# Altium integrated library Altium_SMD_Resister.IntLib: 493 symbols (part 3 of 8)
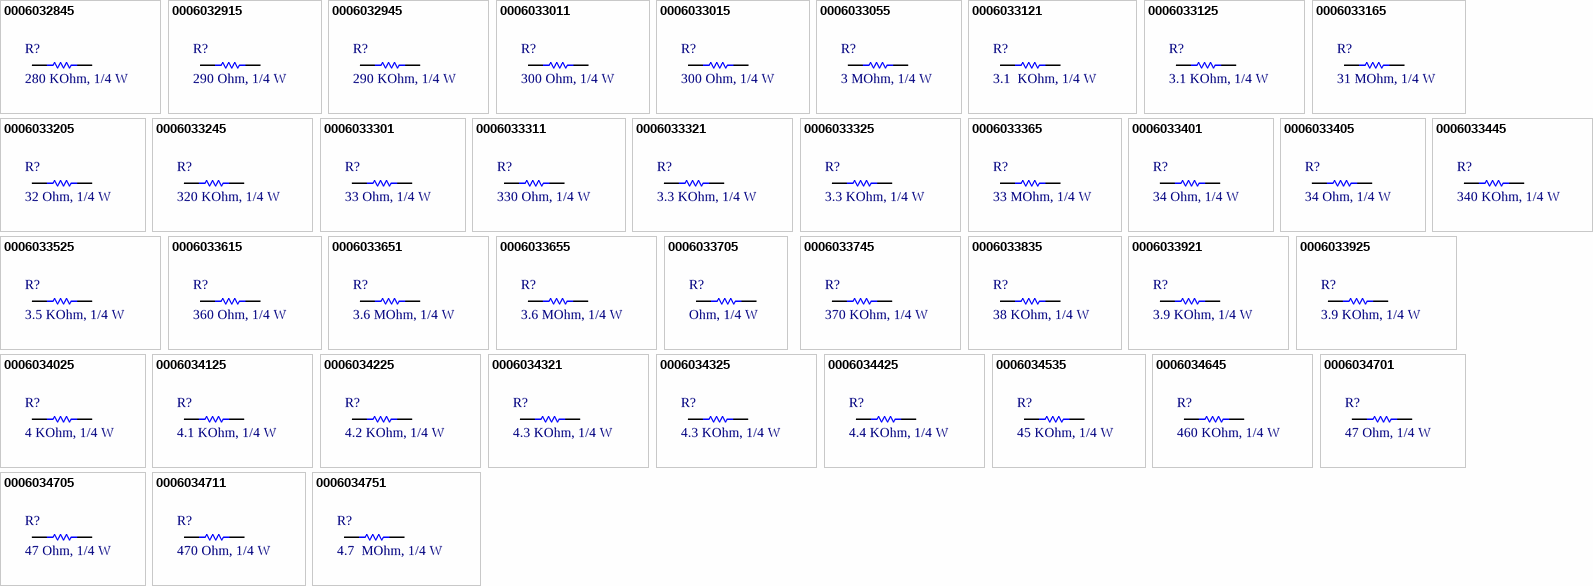
[diagram p14: symbols 0006032845 to 0006034751]

## 0006033205
designator R?, comment 32 Ohm, 1/4 W
RES, size 0805, 32 Ohm, 1/4 W; Manufacture  Name: OEM; Rated Power: 1/4 W; Resistance: 32 Ohm; Resistance Tolerant: +/-5%; Size: 0603; Mounting Technology: SMT; Datasheet: N/A; Supplier 1 Name: Mouser; Supplier 1 SN: N/A; Supplier 1 URL: N/A; Supplier 2 Name: Digi-Key; Supplier 2 SN: N/A; Supply 2 URL: N/A; Supplier 3 Name: Thegioiic; Supplier 3 SN: N/A; Supplier 3 URL: N/A; Manufacture  SN: OEM; Value: 32 Ohm, 1/4 W
footprint resistor_0603
pins: 1, 2

## 0006033245
designator R?, comment 320 KOhm, 1/4 W
RES, size 0805, 320 KOhm, 1/4 W; Manufacture  Name: OEM; Rated Power: 1/4 W; Resistance Tolerant: +/-5%; Size: 0603; Mounting Technology: SMT; Datasheet: N/A; Resistance: 320 KOhm; Supplier 1 Name: Mouser; Supplier 1 SN: N/A; Supplier 1 URL: N/A; Supplier 2 Name: Digi-Key; Supplier 2 SN: N/A; Supply 2 URL: N/A; Supplier 3 Name: Thegioiic; Supplier 3 SN: N/A; Supplier 3 URL: N/A; Manufacture  SN: OEM; Value: 320 KOhm, 1/4 W
footprint resistor_0603
pins: 1, 2

## 0006033301
designator R?, comment 33 Ohm, 1/4 W
RES, size 0805, 33 Ohm, 1/4 W; Manufacture  Name: OEM; Resistance: 33 Ohm; Resistance Tolerant: +/-1%; Rated Power: 1/4 W; Size: 0603; Mounting Technology: SMT; Supplier 1 Name: Mouser; Supplier 1 SN: 667-ERJ-UP3F33R0V; Supplier 2 Name: Digi-Key; Supplier 2 SN: 10-ERJ-UP3F33R0VTR-ND 10-ERJ-UP3F33R0VCT-ND 10-ERJ-UP3F33R0VDKR-ND; Supplier 1 URL: https://www.mouser.vn/ProductDetail/Panasonic/ERJ-UP3F33R0V?qs=sGAEpiMZZMvdGkrng054twq3eZrCFN89SIaxCOiI%2FLhwYCTxSQzpaA%3D%3D; Supply 2 URL: https://www.digikey.com/en/products/detail/panasonic-electronic-components/ERJ-UP3F33R0V/12092441; Supplier 3 Name: Thegioiic; Supplier 3 SN: N/A; Supplier 3 URL: N/A; Datasheet: https://api.pim.na.industrial.panasonic.com/file_stream/main/fileversion/4484; Manufacture  SN: OEM; Value: 33 Ohm, 1/4 W
footprint resistor_0603
pins: 1, 2

## 0006033311
designator R?, comment 330 Ohm, 1/4 W
RES, size 0805, 330 Ohm, 1/4 W; Manufacture  Name: OEM; Resistance: 330 Ohm; Resistance Tolerant: +/-1%; Rated Power: 1/4 W; Size: 0603; Mounting Technology: SMT; Supplier 1 Name: Mouser; Supplier 1 SN: 667-ERJ-UP3F3300V; Supplier 2 Name: Digi-Key; Supplier 2 SN: 10-ERJ-UP3F3300VTR-ND 10-ERJ-UP3F3300VCT-ND 10-ERJ-UP3F3300VDKR-ND; Supplier 1 URL: https://www.mouser.vn/ProductDetail/Panasonic/ERJ-UP3F3300V?qs=sGAEpiMZZMvdGkrng054twq3eZrCFN89MDZusw5Tf7mZnfRSpxxqIA%3D%3D; Supply 2 URL: https://www.digikey.com/en/products/detail/panasonic-electronic-components/ERJ-UP3F3300V/12093106; Supplier 3 Name: Thegioiic; Supplier 3 SN: N/A; Supplier 3 URL: N/A; Datasheet: https://api.pim.na.industrial.panasonic.com/file_stream/main/fileversion/4484; Manufacture  SN: OEM; Value: 330 Ohm, 1/4 W
footprint resistor_0603
pins: 1, 2

## 0006033321
designator R?, comment 3.3 KOhm, 1/4 W
RES, size 0805, 3.3 KOhm, 1/4 W; Manufacture  Name: OEM; Resistance Tolerant: +/-1%; Rated Power: 1/4 W; Resistance: 3.3 KOhm; Size: 0603; Mounting Technology: SMT; Supplier 1 Name: Mouser; Supplier 1 SN: 667-ERJ-PA3F3301V; Supplier 2 Name: Digi-Key; Supplier 2 SN: 10-ERJ-UP3F3301VTR-ND 10-ERJ-UP3F3301VCT-ND 10-ERJ-UP3F3301VDKR-ND; Supplier 1 URL: https://www.mouser.vn/ProductDetail/Panasonic/ERJ-PA3F3301V?qs=sGAEpiMZZMvdGkrng054t6%2FAfIpq60YDpB2wwO%252BBqIBQy72ynM%2FI9Q%3D%3D; Supply 2 URL: https://www.digikey.com/en/products/detail/panasonic-electronic-components/ERJ-UP3F3301V/12093093; Supplier 3 Name: Thegioiic; Supplier 3 SN: N/A; Supplier 3 URL: N/A; Datasheet: https://api.pim.na.industrial.panasonic.com/file_stream/main/fileversion/4484; Manufacture  SN: OEM; Value: 3.3 KOhm, 1/4 W
footprint resistor_0603
pins: 1, 2

## 0006033325
designator R?, comment 3.3 KOhm, 1/4 W
RES, size 0805, 3.3 KOhm, 1/4 W; Manufacture  Name: Panasonic; Manufacture  SN: ERJ-UP3J332V; Rated Power: 1/4 W; Resistance Tolerant: +/-5%; Size: 0603; Mounting Technology: SMT; Datasheet: https://www.mouser.vn/datasheet/2/315/Panasonic_Resistors_Thick_Film_Anti_Sulf_Anti_Surg-1825099.pdf; Resistance: 3.3 KOhm; Supplier 1 Name: Mouser; Supplier 1 SN: 667-ERJ-UP3J332V; Supplier 1 URL: https://www.mouser.vn/ProductDetail/Panasonic/ERJ-UP3J332V?qs=GedFDFLaBXFgKQrmrDNO%252Bg%3D%3D; Supplier 2 Name: Digi-Key; Supplier 2 SN: 10-ERJ-UP3J332VTR-ND - Tape & Reel (TR); Supply 2 URL: https://www.digikey.com/en/products/detail/panasonic-electronic-components/ERJ-UP3J332V/12092604?s=N4IgTCBcDaIGxwOwFoCiAlAUsgqgBQGZMCCwA1EAXQF8g; Supplier 3 Name: Thegioiic; Supplier 3 SN: N/A; Supplier 3 URL: N/A; Value: 3.3 KOhm, 1/4 W
footprint resistor_0603
pins: 1, 2

## 0006033365
designator R?, comment 33 MOhm, 1/4 W
RES, size 0805, 33 MOhm, 1/4 W; Manufacture  Name: OEM; Rated Power: 1/4 W; Resistance: 33 MOhm; Resistance Tolerant: +/-5%; Size: 0603; Mounting Technology: SMT; Datasheet: N/A; Supplier 1 Name: Mouser; Supplier 1 SN: N/A; Supplier 1 URL: N/A; Supplier 2 Name: Digi-Key; Supplier 2 SN: N/A; Supply 2 URL: N/A; Supplier 3 Name: Thegioiic; Supplier 3 SN: N/A; Supplier 3 URL: N/A; Manufacture  SN: OEM; Value: 33 MOhm, 1/4 W
footprint resistor_0603
pins: 1, 2

## 0006033401
designator R?, comment 34 Ohm, 1/4 W
RES, size 0805, 34 Ohm, 1/4 W; Manufacture  Name: OEM; Resistance: 34 Ohm; Resistance Tolerant: +/-1%; Rated Power: 1/4 W; Size: 0603; Mounting Technology: SMT; Supplier 1 Name: Mouser; Supplier 1 SN: 667-ERJ-PA3F34R0V; Supplier 2 Name: Digi-Key; Supplier 2 SN: 10-ERJ-UP3F34R0VTR-ND; Supplier 1 URL: https://www.mouser.vn/ProductDetail/Panasonic/ERJ-PA3F34R0V?qs=sGAEpiMZZMvdGkrng054t6%2FAfIpq60YDFpgNmxonQxDNwfArcaAbgA%3D%3D; Supply 2 URL: https://www.digikey.com/en/products/detail/panasonic-electronic-components/ERJ-UP3F34R0V/12092872; Supplier 3 Name: Thegioiic; Supplier 3 SN: N/A; Supplier 3 URL: N/A; Datasheet: https://api.pim.na.industrial.panasonic.com/file_stream/main/fileversion/4484; Manufacture  SN: OEM; Value: 34 Ohm, 1/4 W
footprint resistor_0603
pins: 1, 2

## 0006033405
designator R?, comment 34 Ohm, 1/4 W
RES, size 0805, 34 Ohm, 1/4 W; Manufacture  Name: OEM; Rated Power: 1/4 W; Resistance: 34 Ohm; Resistance Tolerant: +/-5%; Size: 0603; Mounting Technology: SMT; Datasheet: N/A; Supplier 1 Name: Mouser; Supplier 1 SN: N/A; Supplier 1 URL: N/A; Supplier 2 Name: Digi-Key; Supplier 2 SN: N/A; Supply 2 URL: N/A; Supplier 3 Name: Thegioiic; Supplier 3 SN: N/A; Supplier 3 URL: N/A; Manufacture  SN: OEM; Value: 34 Ohm, 1/4 W
footprint resistor_0603
pins: 1, 2

## 0006033445
designator R?, comment 340 KOhm, 1/4 W
RES, size 0805, 340 KOhm, 1/4 W; Manufacture  Name: OEM; Rated Power: 1/4 W; Resistance Tolerant: +/-5%; Size: 0603; Mounting Technology: SMT; Datasheet: N/A; Resistance: 340 KOhm; Supplier 1 Name: Mouser; Supplier 1 SN: N/A; Supplier 1 URL: N/A; Supplier 2 Name: Digi-Key; Supplier 2 SN: N/A; Supply 2 URL: N/A; Supplier 3 Name: Thegioiic; Supplier 3 SN: N/A; Supplier 3 URL: N/A; Manufacture  SN: OEM; Value: 340 KOhm, 1/4 W
footprint resistor_0603
pins: 1, 2

## 0006033525
designator R?, comment 3.5 KOhm, 1/4 W
RES, size 0805, 3.5 KOhm, 1/4 W; Manufacture  Name: OEM; Rated Power: 1/4 W; Resistance Tolerant: +/-5%; Size: 0603; Mounting Technology: SMT; Datasheet: N/A; Resistance: 3.5 KOhm; Supplier 1 Name: Mouser; Supplier 1 SN: N/A; Supplier 1 URL: N/A; Supplier 2 Name: Digi-Key; Supplier 2 SN: N/A; Supply 2 URL: N/A; Supplier 3 Name: Thegioiic; Supplier 3 SN: N/A; Supplier 3 URL: N/A; Manufacture  SN: OEM; Value: 3.5 KOhm, 1/4 W
footprint resistor_0603
pins: 1, 2

## 0006033615
designator R?, comment 360 Ohm, 1/4 W
RES, size 0805, 360 Ohm, 1/4 W; Manufacture  Name: Panasonic; Manufacture  SN: ERJ-PA3J361V; Rated Power: 1/4 W; Resistance: 360 Ohm; Resistance Tolerant: +/-5%; Size: 0603; Mounting Technology: SMT; Datasheet: https://www.mouser.vn/datasheet/2/315/AOA0000C331-1141874.pdf; Supplier 1 Name: Mouser; Supplier 1 SN: 667-ERJ-PA3J361V; Supplier 1 URL: https://www.mouser.vn/ProductDetail/Panasonic/ERJ-PA3J361V?qs=BzJM0faLVqUhDLV4JPGgSA%3D%3D; Supplier 2 Name: Digi-Key; Supplier 2 SN: P360BZTR-ND - Tape & Reel (TR); Supply 2 URL: https://www.digikey.com/en/products/detail/panasonic-electronic-components/ERJ-PA3J361V/5036046?s=N4IgTCBcDaIGxwOwFoCiAlAUsgCgQQGZMC4BGANRAF0BfIA; Supplier 3 Name: Thegioiic; Supplier 3 SN: N/A; Supplier 3 URL: N/A; Value: 360 Ohm, 1/4 W
footprint resistor_0603
pins: 1, 2

## 0006033651
designator R?, comment 3.6 MOhm, 1/4 W
RES, size 0805, 3.6 MOhm, 1/4 W; Manufacture  Name: OEM; Resistance Tolerant: +/-1%; Rated Power: 1/4 W; Resistance: 3.6 MOhm; Size: 0603; Mounting Technology: SMT; Supplier 1 Name: Mouser; Supplier 1 SN: 755-ESR03EZPF3604; Supplier 2 Name: Digi-Key; Supplier 2 SN: ESR03EZPF3604-ND; Supplier 1 URL: https://www.mouser.vn/ProductDetail/ROHM-Semiconductor/ESR03EZPF3604?qs=sGAEpiMZZMvdGkrng054tywGjayRHxH2%2FxsX8eATj0b%2F79MXXLOFlA%3D%3D; Supply 2 URL: https://www.digikey.com/en/products/detail/rohm-semiconductor/ESR03EZPF3604/4007226?s=N4IgjCBcoExaBjKAzAhgGwM4FMA0IB7KAbXADYBWAFgGYQBdfABwBcoQBlFgJwEsA7AOYgAvvjrQQSSGix5CJcGBoRGIVuy58ho-GBgBOCJOmyc%2BIpFI0DMKhQbM2kTjwHCxIGAAYAHA5MUDHMFKxAaADoyAAIAWQB5AAsAW0xHdWcQAFV%2BXhZ45FjsVEwAV25sUU84MIrMXkwWAm4GESA; Supplier 3 Name: Thegioiic; Supplier 3 SN: N/A; Supplier 3 URL: N/A; Datasheet: https://fscdn.rohm.com/en/products/databook/datasheet/passive/resistor/chip_resistor/esr-e.pdf; Manufacture  SN: OEM; Value: 3.6 MOhm, 1/4 W
footprint resistor_0603
pins: 1, 2

## 0006033655
designator R?, comment 3.6 MOhm, 1/4 W
RES, size 0805, 3.6 MOhm, 1/4 W; Manufacture  Name: Panasonic; Manufacture  SN: PS03W4J0365T5E; Rated Power: 1/4 W; Resistance Tolerant: +/-5%; Size: 0603; Mounting Technology: SMT; Datasheet: https://www.mouser.vn/datasheet/2/1365/HighPrecisionPS-2498060.pdf; Resistance: 3.6 MOhm; Supplier 1 Name: Mouser; Supplier 1 SN: 303-PS03W4J0365T5E; Supplier 1 URL: https://www.mouser.vn/ProductDetail/Royalohm/PS03W4J0365T5E?qs=e8oIoAS2J1Tdj3KjxH4iAA%3D%3D; Supplier 2 Name: Digi-Key; Supplier 2 SN: N/A; Supply 2 URL: N/A; Supplier 3 Name: Thegioiic; Supplier 3 SN: N/A; Supplier 3 URL: N/A; Value: 3.6 MOhm, 1/4 W
footprint resistor_0603
pins: 1, 2

## 0006033705
designator R?, comment Ohm, 1/4 W
RES, size 0805,  Ohm, 1/4 W; Manufacture  Name: OEM; Rated Power: 1/4 W; Resistance Tolerant: +/-5%; Size: 0603; Mounting Technology: SMT; Datasheet: N/A; Resistance: Ohm; Supplier 1 Name: Mouser; Supplier 1 SN: N/A; Supplier 1 URL: N/A; Supplier 2 Name: Digi-Key; Supplier 2 SN: N/A; Supply 2 URL: N/A; Supplier 3 Name: Thegioiic; Supplier 3 SN: N/A; Supplier 3 URL: N/A; Manufacture  SN: OEM; Value: Ohm, 1/4 W
footprint resistor_0603
pins: 1, 2

## 0006033745
designator R?, comment 370 KOhm, 1/4 W
RES, size 0805, 370 KOhm, 1/4 W; Manufacture  Name: OEM; Rated Power: 1/4 W; Resistance Tolerant: +/-5%; Size: 0603; Mounting Technology: SMT; Datasheet: N/A; Resistance: 370 KOhm; Supplier 1 Name: Mouser; Supplier 1 SN: N/A; Supplier 1 URL: N/A; Supplier 2 Name: Digi-Key; Supplier 2 SN: N/A; Supply 2 URL: N/A; Supplier 3 Name: Thegioiic; Supplier 3 SN: N/A; Supplier 3 URL: N/A; Manufacture  SN: OEM; Value: 370 KOhm, 1/4 W
footprint resistor_0603
pins: 1, 2

## 0006033835
designator R?, comment 38 KOhm, 1/4 W
RES, size 0805, 38 KOhm, 1/4 W; Manufacture  Name: OEM; Rated Power: 1/4 W; Resistance: 38 KOhm; Resistance Tolerant: +/-5%; Size: 0603; Mounting Technology: SMT; Datasheet: N/A; Supplier 1 Name: Mouser; Supplier 1 SN: N/A; Supplier 1 URL: N/A; Supplier 2 Name: Digi-Key; Supplier 2 SN: N/A; Supply 2 URL: N/A; Supplier 3 Name: Thegioiic; Supplier 3 SN: N/A; Supplier 3 URL: N/A; Manufacture  SN: OEM; Value: 38 KOhm, 1/4 W
footprint resistor_0603
pins: 1, 2

## 0006033921
designator R?, comment 3.9 KOhm, 1/4 W
RES, size 0805, 3.9 KOhm, 1/4 W; Manufacture  Name: OEM; Resistance Tolerant: +/-1%; Rated Power: 1/4 W; Resistance: 3.9 KOhm; Size: 0603; Mounting Technology: SMT; Supplier 1 Name: Mouser; Supplier 1 SN: 667-ERJ-UP3F3901V; Supplier 2 Name: Digi-Key; Supplier 2 SN: 10-ERJ-UP3F3901VTR-ND 10-ERJ-UP3F3901VCT-ND 10-ERJ-UP3F3901VDKR-ND; Supplier 1 URL: https://www.mouser.vn/ProductDetail/Panasonic/ERJ-UP3F3901V?qs=sGAEpiMZZMvdGkrng054twq3eZrCFN89v%252B1LrQ8PuG0U4NoLKvJXbQ%3D%3D; Supply 2 URL: https://www.digikey.com/en/products/detail/panasonic-electronic-components/ERJ-UP3F3901V/12092302; Supplier 3 Name: Thegioiic; Supplier 3 SN: N/A; Supplier 3 URL: N/A; Datasheet: https://api.pim.na.industrial.panasonic.com/file_stream/main/fileversion/4484; Manufacture  SN: OEM; Value: 3.9 KOhm, 1/4 W
footprint resistor_0603
pins: 1, 2

## 0006033925
designator R?, comment 3.9 KOhm, 1/4 W
RES, size 0805, 3.9 KOhm, 1/4 W; Manufacture  Name: Panasonic; Manufacture  SN: ERJ-UP3J392V; Rated Power: 1/4 W; Resistance Tolerant: +/-5%; Size: 0603; Mounting Technology: SMT; Datasheet: https://www.mouser.vn/datasheet/2/315/Panasonic_Resistors_Thick_Film_Anti_Sulf_Anti_Surg-1825099.pdf; Resistance: 3.9 KOhm; Supplier 1 Name: Mouser; Supplier 1 SN: 667-ERJ-UP3J392V; Supplier 1 URL: https://www.mouser.vn/ProductDetail/Panasonic/ERJ-UP3J392V?qs=GedFDFLaBXFBe98E7HzDpw%3D%3D; Supplier 2 Name: Digi-Key; Supplier 2 SN: 10-ERJ-UP3J392VTR-ND - Tape & Reel (TR); Supply 2 URL: https://www.digikey.com/en/products/detail/panasonic-electronic-components/ERJ-UP3J392V/12092893?s=N4IgTCBcDaIGxwOwFoCiAlAUsgqgBQGZMCBOMANRAF0BfIA; Supplier 3 Name: Thegioiic; Supplier 3 SN: N/A; Supplier 3 URL: N/A; Value: 3.9 KOhm, 1/4 W
footprint resistor_0603
pins: 1, 2

## 0006034025
designator R?, comment 4 KOhm, 1/4 W
RES, size 0805, 4 KOhm, 1/4 W; Manufacture  Name: OEM; Rated Power: 1/4 W; Resistance: 4 KOhm; Resistance Tolerant: +/-5%; Size: 0603; Mounting Technology: SMT; Datasheet: N/A; Supplier 1 Name: Mouser; Supplier 1 SN: N/A; Supplier 1 URL: N/A; Supplier 2 Name: Digi-Key; Supplier 2 SN: N/A; Supply 2 URL: N/A; Supplier 3 Name: Thegioiic; Supplier 3 SN: N/A; Supplier 3 URL: N/A; Manufacture  SN: OEM; Value: 4 KOhm, 1/4 W
footprint resistor_0603
pins: 1, 2

## 0006034125
designator R?, comment 4.1 KOhm, 1/4 W
RES, size 0805, 4.1 KOhm, 1/4 W; Manufacture  Name: OEM; Rated Power: 1/4 W; Resistance Tolerant: +/-5%; Size: 0603; Mounting Technology: SMT; Datasheet: N/A; Resistance: 4.1 KOhm; Supplier 1 Name: Mouser; Supplier 1 SN: N/A; Supplier 1 URL: N/A; Supplier 2 Name: Digi-Key; Supplier 2 SN: N/A; Supply 2 URL: N/A; Supplier 3 Name: Thegioiic; Supplier 3 SN: N/A; Supplier 3 URL: N/A; Manufacture  SN: OEM; Value: 4.1 KOhm, 1/4 W
footprint resistor_0603
pins: 1, 2

## 0006034225
designator R?, comment 4.2 KOhm, 1/4 W
RES, size 0805, 4.2 KOhm, 1/4 W; Manufacture  Name: OEM; Rated Power: 1/4 W; Resistance Tolerant: +/-5%; Size: 0603; Mounting Technology: SMT; Datasheet: N/A; Resistance: 4.2 KOhm; Supplier 1 Name: Mouser; Supplier 1 SN: N/A; Supplier 1 URL: N/A; Supplier 2 SN: N/A; Supply 2 URL: N/A; Supplier 3 Name: Thegioiic; Supplier 3 SN: N/A; Supplier 3 URL: N/A; Manufacture  SN: OEM; Supplier 2 Name: Digi-Key; Value: 4.2 KOhm, 1/4 W
footprint resistor_0603
pins: 1, 2

## 0006034321
designator R?, comment 4.3 KOhm, 1/4 W
RES, size 0805, 4.3 KOhm, 1/4 W; Manufacture  Name: OEM; Resistance Tolerant: +/-1%; Rated Power: 1/4 W; Resistance: 4.3 KOhm; Size: 0603; Mounting Technology: SMT; Supplier 1 Name: Mouser; Supplier 1 SN: 667-ERJ-UP3F4301V; Supplier 2 Name: Digi-Key; Supplier 2 SN: 10-ERJ-UP3F4301VTR-ND 10-ERJ-UP3F4301VCT-ND 10-ERJ-UP3F4301VDKR-ND; Supplier 1 URL: https://www.mouser.vn/ProductDetail/Panasonic/ERJ-UP3F4301V?qs=sGAEpiMZZMvdGkrng054twq3eZrCFN89EB%2FT%2FU0dzr%2FuZtKqGlK%2FvA%3D%3D; Supply 2 URL: https://www.digikey.com/en/products/detail/panasonic-electronic-components/ERJ-UP3F4301V/12092142; Supplier 3 Name: Thegioiic; Supplier 3 SN: N/A; Supplier 3 URL: N/A; Datasheet: https://api.pim.na.industrial.panasonic.com/file_stream/main/fileversion/4484; Manufacture  SN: OEM; Value: 4.3 KOhm, 1/4 W
footprint resistor_0603
pins: 1, 2

## 0006034325
designator R?, comment 4.3 KOhm, 1/4 W
RES, size 0805, 4.3 KOhm, 1/4 W; Manufacture  Name: Panasonic; Manufacture  SN: ERJ-PA3J432V; Rated Power: 1/4 W; Resistance Tolerant: +/-5%; Size: 0603; Mounting Technology: SMT; Datasheet: https://www.mouser.vn/datasheet/2/315/AOA0000C331-1141874.pdf; Resistance: 4.3 KOhm; Supplier 1 Name: Mouser; Supplier 1 SN: 667-ERJ-PA3J432V; Supplier 1 URL: https://www.mouser.vn/ProductDetail/Panasonic/ERJ-PA3J432V?qs=BzJM0faLVqXaYjCx8jK0Hw%3D%3D; Supplier 2 Name: Digi-Key; Supplier 2 SN: P4.3KBZTR-ND - Tape & Reel (TR); Supply 2 URL: https://www.digikey.com/en/products/detail/panasonic-electronic-components/ERJ-PA3J432V/5036061?s=N4IgTCBcDaIGxwOwFoCiAlAUsgCgQQGZMAWAsANRAF0BfIA; Supplier 3 Name: Thegioiic; Supplier 3 SN: N/A; Supplier 3 URL: N/A; Value: 4.3 KOhm, 1/4 W
footprint resistor_0603
pins: 1, 2

## 0006034425
designator R?, comment 4.4 KOhm, 1/4 W
RES, size 0805, 4.4 KOhm, 1/4 W; Manufacture  Name: OEM; Rated Power: 1/4 W; Resistance Tolerant: +/-5%; Size: 0603; Mounting Technology: SMT; Datasheet: N/A; Resistance: 4.4 KOhm; Supplier 1 Name: Mouser; Supplier 1 SN: N/A; Supplier 1 URL: N/A; Supplier 2 Name: Digi-Key; Supplier 2 SN: N/A; Supply 2 URL: N/A; Supplier 3 Name: Thegioiic; Supplier 3 SN: N/A; Supplier 3 URL: N/A; Manufacture  SN: OEM; Value: 4.4 KOhm, 1/4 W
footprint resistor_0603
pins: 1, 2

## 0006034535
designator R?, comment 45 KOhm, 1/4 W
RES, size 0805, 45 KOhm, 1/4 W; Manufacture  Name: OEM; Rated Power: 1/4 W; Resistance: 45 KOhm; Resistance Tolerant: +/-5%; Size: 0603; Mounting Technology: SMT; Datasheet: N/A; Supplier 1 Name: Mouser; Supplier 1 SN: N/A; Supplier 1 URL: N/A; Supplier 2 Name: Digi-Key; Supplier 2 SN: N/A; Supply 2 URL: N/A; Supplier 3 Name: Thegioiic; Supplier 3 SN: N/A; Supplier 3 URL: N/A; Manufacture  SN: OEM; Value: 45 KOhm, 1/4 W
footprint resistor_0603
pins: 1, 2

## 0006034645
designator R?, comment 460 KOhm, 1/4 W
RES, size 0805, 460 KOhm, 1/4 W; Manufacture  Name: OEM; Rated Power: 1/4 W; Resistance Tolerant: +/-5%; Size: 0603; Mounting Technology: SMT; Datasheet: N/A; Resistance: 460 KOhm; Supplier 1 Name: Mouser; Supplier 1 SN: N/A; Supplier 1 URL: N/A; Supplier 2 Name: Digi-Key; Supplier 2 SN: N/A; Supply 2 URL: N/A; Supplier 3 Name: Thegioiic; Supplier 3 SN: N/A; Supplier 3 URL: N/A; Manufacture  SN: OEM; Value: 460 KOhm, 1/4 W
footprint resistor_0603
pins: 1, 2

## 0006034701
designator R?, comment 47 Ohm, 1/4 W
RES, size 0805, 47 Ohm, 1/4 W; Manufacture  Name: OEM; Rated Power: 1/4 W; Resistance: 47 Ohm; Resistance Tolerant: +/-1%; Size: 0603; Mounting Technology: SMT; Datasheet: https://www.mouser.vn/datasheet/2/315/Panasonic_Resistors_Thick_Film_Anti_Sulf_Anti_Surg-1825099.pdf; Supplier 1 Name: Mouser; Supplier 1 SN: 667-ERJ-UP3F47R0V; Supplier 1 URL: https://www.mouser.vn/ProductDetail/Panasonic/ERJ-UP3F47R0V?qs=GedFDFLaBXE9d1Rnv%2Fokmg%3D%3D; Supplier 2 Name: Digi-Key; Supplier 2 SN: 10-ERJ-UP3F47R0VTR-ND - Tape & Reel (TR); Supply 2 URL: https://www.digikey.com/en/products/detail/panasonic-electronic-components/ERJ-UP3F47R0V/12092512?s=N4IgTCBcDaIGxwOwFoCiAlAUsgqgBQGYAxAFkXQAYA1EAXQF8g; Supplier 3 Name: Thegioiic; Supplier 3 SN: N/A; Supplier 3 URL: N/A; Manufacture  SN: OEM; Value: 47 Ohm, 1/4 W
footprint resistor_0603
pins: 1, 2

## 0006034705
designator R?, comment 47 Ohm, 1/4 W
RES, size 0805, 47 Ohm, 1/4 W; Manufacture  Name: Panasonic; Manufacture  SN: ERJ-UP3J470V; Rated Power: 1/4 W; Resistance: 47 Ohm; Resistance Tolerant: +/-5%; Size: 0603; Mounting Technology: SMT; Datasheet: https://www.mouser.vn/datasheet/2/315/Panasonic_Resistors_Thick_Film_Anti_Sulf_Anti_Surg-1825099.pdf; Supplier 1 Name: Mouser; Supplier 1 SN: 667-ERJ-UP3J470V; Supplier 1 URL: https://www.mouser.vn/ProductDetail/Panasonic/ERJ-UP3J470V?qs=GedFDFLaBXETFVlcMkdFKA%3D%3D; Supplier 2 Name: Digi-Key; Supplier 2 SN: 10-ERJ-UP3J470VTR-ND - Tape & Reel (TR); Supply 2 URL: https://www.digikey.com/en/products/detail/panasonic-electronic-components/ERJ-UP3J470V/12092267?s=N4IgTCBcDaIGxwOwFoCiAlAUsgqgBQGZMAWRABgDUQBdAXyA; Supplier 3 Name: Thegioiic; Supplier 3 SN: N/A; Supplier 3 URL: https://www.thegioiic.com/dien-tro-47-ohm-0603-5-; Value: 47 Ohm, 1/4 W
footprint resistor_0603
pins: 1, 2

## 0006034711
designator R?, comment 470 Ohm, 1/4 W
RES, size 0805, 470 Ohm, 1/4 W; Manufacture  Name: OEM; Resistance: 470 Ohm; Resistance Tolerant: +/-1%; Rated Power: 1/4 W; Size: 0603; Mounting Technology: SMT; Supplier 1 Name: Mouser; Supplier 1 SN: 667-ERJ-UP3F4700V; Supplier 2 Name: Digi-Key; Supplier 2 SN: 10-ERJ-UP3F4700VTR-ND 10-ERJ-UP3F4700VCT-ND 10-ERJ-UP3F4700VDKR-ND; Supplier 1 URL: https://www.mouser.vn/ProductDetail/Panasonic/ERJ-UP3F4700V?qs=sGAEpiMZZMvdGkrng054twq3eZrCFN89YP9%2F6do01QmKc1dooCCEdg%3D%3D; Supply 2 URL: https://www.digikey.com/en/products/detail/panasonic-electronic-components/ERJ-UP3F4700V/12139344; Supplier 3 Name: Thegioiic; Supplier 3 SN: N/A; Supplier 3 URL: N/A; Datasheet: https://api.pim.na.industrial.panasonic.com/file_stream/main/fileversion/4484; Manufacture  SN: OEM; Value: 470 Ohm, 1/4 W
footprint resistor_0603
pins: 1, 2

## 0006034751
designator R?, comment 4.7  MOhm, 1/4 W
RES, size 0805, 4.7  MOhm, 1/4 W; Manufacture  Name: OEM; Rated Power: 1/4 W; Resistance Tolerant: +/-1%; Size: 0603; Mounting Technology: SMT; Datasheet: https://www.mouser.vn/datasheet/2/348/ROHM_S_A0011075102_1-2563252.pdf; Resistance: 4.7  MOhm; Supplier 1 Name: Mouser; Supplier 1 SN: 755-ESR03EZPF4704; Supplier 1 URL: https://www.mouser.vn/ProductDetail/ROHM-Semiconductor/ESR03EZPF4704?qs=493kPxzlxfKRPtowNexBaA%3D%3D; Supplier 2 Name: Digi-Key; Supplier 2 SN: ESR03EZPF4704-ND - Tape & Reel (TR); Supply 2 URL: https://www.digikey.com/en/products/detail/rohm-semiconductor/ESR03EZPF4704/4007245?s=N4IgTCBcDaIOwFYEFoCiBlASgBgMyoC0AFAMQBY5syQBdAXyA; Supplier 3 Name: Thegioiic; Supplier 3 SN: N/A; Supplier 3 URL: N/A; Manufacture  SN: OEM; Value: 4.7  MOhm, 1/4 W
footprint resistor_0603
pins: 1, 2

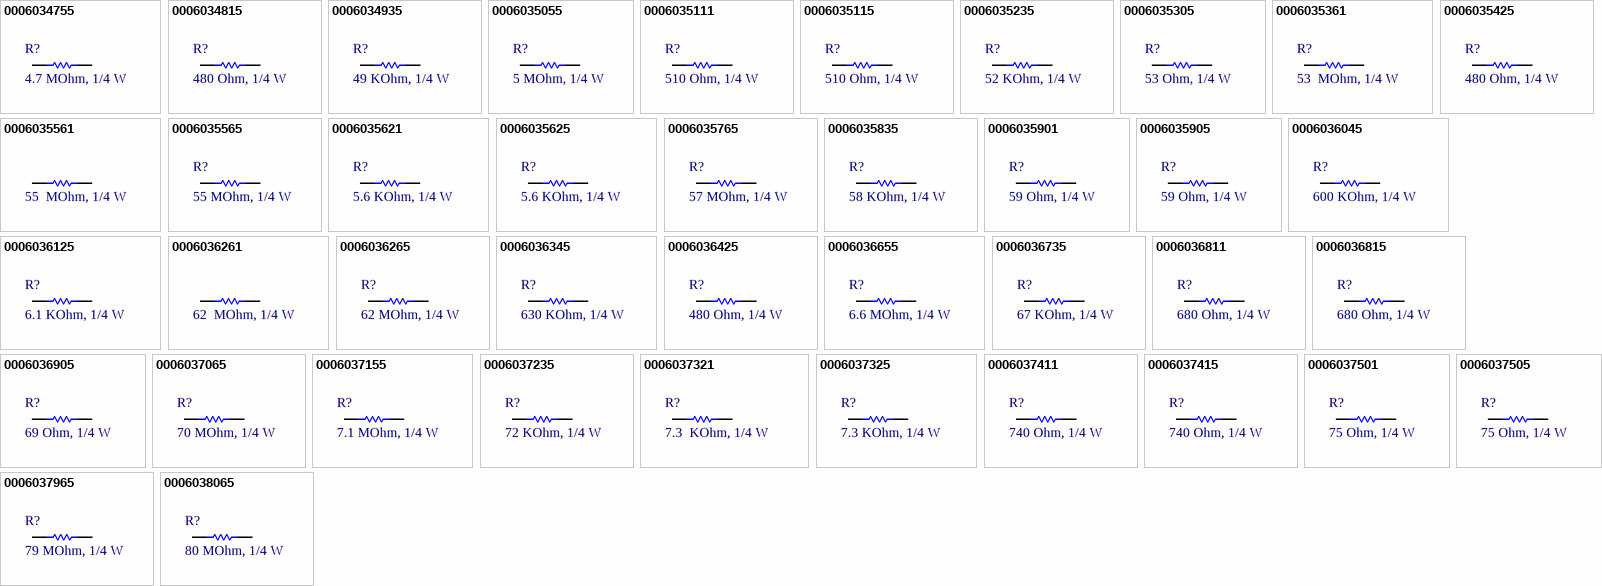
[diagram p4: symbols 0006034755 to 0006038065]

## 0006034755
designator R?, comment 4.7 MOhm, 1/4 W
RES, size 0805, 4.7 MOhm, 1/4 W; Manufacture  Name: ROHM Semiconductor; Manufacture  SN: ESR03EZPJ475; Rated Power: 1/4 W; Resistance Tolerant: +/-5%; Size: 0603; Mounting Technology: SMT; Datasheet: https://www.mouser.vn/datasheet/2/348/ROHM_S_A0011075102_1-2563252.pdf; Resistance: 4.7 MOhm; Supplier 1 Name: Mouser; Supplier 1 SN: 755-ESR03EZPJ475; Supplier 1 URL: https://www.mouser.vn/ProductDetail/ROHM-Semiconductor/ESR03EZPJ475?qs=493kPxzlxfJ6jBG7c1mIWA%3D%3D; Supplier 2 Name: Digi-Key; Supplier 2 SN: https://www.digikey.com/en/products/detail/rohm-semiconductor/ESR03EZPJ475/4051264?s=N4IgTCBcDaIOwFYEFoCiBlASgBgMyoC0AFAKQBZEQBdAXyA; Supply 2 URL: https://www.digikey.com/en/products/detail/rohm-semiconductor/ESR03EZPJ475/4051264?s=N4IgTCBcDaIOwFYEFoCiBlASgBgMyoC0AFAKQBZEQBdAXyA; Supplier 3 Name: Thegioiic; Supplier 3 SN: N/A; Supplier 3 URL: N/A; Value: 4.7 MOhm, 1/4 W
footprint resistor_0603
pins: 1, 2

## 0006034815
designator R?, comment 480 Ohm, 1/4 W
RES, size 0805, 480 Ohm, 1/4 W; Manufacture  Name: OEM; Rated Power: 1/4 W; Resistance: 480 Ohm; Resistance Tolerant: +/-5%; Size: 0603; Mounting Technology: SMT; Datasheet: N/A; Supplier 1 Name: Mouser; Supplier 1 SN: N/A; Supplier 1 URL: N/A; Supplier 2 Name: Digi-Key; Supplier 2 SN: N/A; Supply 2 URL: N/A; Supplier 3 Name: Thegioiic; Supplier 3 SN: N/A; Supplier 3 URL: N/A; Manufacture  SN: OEM; Value: 480 Ohm, 1/4 W
footprint resistor_0603
pins: 1, 2

## 0006034935
designator R?, comment 49 KOhm, 1/4 W
RES, size 0805, 49 KOhm, 1/4 W; Manufacture  Name: OEM; Rated Power: 1/4 W; Resistance: 49 KOhm; Resistance Tolerant: +/-5%; Size: 0603; Mounting Technology: SMT; Datasheet: N/A; Supplier 1 Name: Mouser; Supplier 1 SN: N/A; Supplier 1 URL: N/A; Supplier 2 Name: Digi-Key; Supplier 2 SN: N/A; Supply 2 URL: N/A; Supplier 3 Name: Thegioiic; Supplier 3 SN: N/A; Supplier 3 URL: N/A; Manufacture  SN: OEM; Value: 49 KOhm, 1/4 W
footprint resistor_0603
pins: 1, 2

## 0006035055
designator R?, comment 5 MOhm, 1/4 W
RES, size 0805, 5 MOhm, 1/4 W; Manufacture  Name: OEM; Rated Power: 1/4 W; Resistance: 5 MOhm; Resistance Tolerant: +/-5%; Size: 0603; Mounting Technology: SMT; Datasheet: N/A; Supplier 1 Name: Mouser; Supplier 1 SN: N/A; Supplier 1 URL: N/A; Supplier 2 Name: Digi-Key; Supplier 2 SN: N/A; Supply 2 URL: N/A; Supplier 3 Name: Thegioiic; Supplier 3 SN: N/A; Supplier 3 URL: N/A; Manufacture  SN: OEM; Value: 5 MOhm, 1/4 W
footprint resistor_0603
pins: 1, 2

## 0006035111
designator R?, comment 510 Ohm, 1/4 W
RES, size 0805, 510 Ohm, 1/4 W; Manufacture  Name: OEM; Resistance: 510 Ohm; Resistance Tolerant: +/-1%; Rated Power: 1/4 W; Size: 0603; Mounting Technology: SMT; Supplier 1 Name: Mouser; Supplier 1 SN: 667-ERJ-UP3F5100V; Supplier 2 Name: Digi-Key; Supplier 2 SN: P17401TR-ND P17401CT-ND P17401DKR-ND; Supplier 1 URL: https://www.mouser.vn/ProductDetail/Panasonic/ERJ-UP3F5100V?qs=sGAEpiMZZMvdGkrng054twq3eZrCFN89dfK8VohwH1n5T5ZGAc92MQ%3D%3D; Supply 2 URL: https://www.digikey.com/en/products/detail/panasonic-electronic-components/ERJ-3BQFR51V/5647434; Supplier 3 Name: Thegioiic; Supplier 3 SN: N/A; Supplier 3 URL: N/A; Datasheet: https://industrial.panasonic.com/cdbs/www-data/pdf/RDN0000/AOA0000C313.pdf; Manufacture  SN: OEM; Value: 510 Ohm, 1/4 W
footprint resistor_0603
pins: 1, 2

## 0006035115
designator R?, comment 510 Ohm, 1/4 W
RES, size 0805, 510 Ohm, 1/4 W; Manufacture  Name: Panasonic; Manufacture  SN: ERJ-UP3J511V; Rated Power: 1/4 W; Resistance: 510 Ohm; Resistance Tolerant: +/-5%; Size: 0603; Mounting Technology: SMT; Datasheet: https://www.mouser.vn/datasheet/2/315/Panasonic_Resistors_Thick_Film_Anti_Sulf_Anti_Surg-1825099.pdf; Supplier 1 Name: Mouser; Supplier 1 SN: 667-ERJ-UP3J511V; Supplier 1 URL: https://www.mouser.vn/ProductDetail/Panasonic/ERJ-UP3J511V?qs=GedFDFLaBXFtKv3NR6S%2FDw%3D%3D; Supplier 2 Name: Digi-Key; Supplier 2 SN: 10-ERJ-UP3J511VTR-ND - Tape & Reel (TR); Supply 2 URL: https://www.digikey.com/en/products/detail/panasonic-electronic-components/ERJ-UP3J511V/12092974?s=N4IgTCBcDaIGxwOwFoCiAlAUsgqgBQGZMBWARlIDUQBdAXyA; Supplier 3 Name: Thegioiic; Supplier 3 SN: N/A; Supplier 3 URL: https://www.thegioiic.com/dien-tro-510-ohm-0603-5; Value: 510 Ohm, 1/4 W
footprint resistor_0603
pins: 1, 2

## 0006035235
designator R?, comment 52 KOhm, 1/4 W
RES, size 0805, 52 KOhm, 1/4 W; Manufacture  Name: OEM; Rated Power: 1/4 W; Resistance: 52 KOhm; Resistance Tolerant: +/-5%; Size: 0603; Mounting Technology: SMT; Datasheet: N/A; Supplier 1 Name: Mouser; Supplier 1 SN: N/A; Supplier 1 URL: N/A; Supplier 2 Name: Digi-Key; Supplier 2 SN: N/A; Supply 2 URL: N/A; Supplier 3 Name: Thegioiic; Supplier 3 SN: N/A; Supplier 3 URL: N/A; Manufacture  SN: OEM; Value: 52 KOhm, 1/4 W
footprint resistor_0603
pins: 1, 2

## 0006035305
designator R?, comment 53 Ohm, 1/4 W
RES, size 0805, 53 Ohm, 1/4 W; Manufacture  Name: OEM; Rated Power: 1/4 W; Resistance: 53 Ohm; Resistance Tolerant: +/-5%; Size: 0603; Mounting Technology: SMT; Datasheet: N/A; Supplier 1 Name: Mouser; Supplier 1 SN: N/A; Supplier 1 URL: N/A; Supplier 2 Name: Digi-Key; Supplier 2 SN: N/A; Supply 2 URL: N/A; Supplier 3 Name: Thegioiic; Supplier 3 SN: N/A; Supplier 3 URL: N/A; Manufacture  SN: OEM; Value: 53 Ohm, 1/4 W
footprint resistor_0603
pins: 1, 2

## 0006035361
designator R?, comment 53  MOhm, 1/4 W
RES, size 0805, 53  MOhm, 1/4 W; Manufacture  Name: OEM; Rated Power: 1/4 W; Resistance: 53  MOhm; Resistance Tolerant: +/-1%; Size: 0603; Mounting Technology: SMT; Datasheet: N/A; Supplier 1 Name: Mouser; Supplier 1 SN: N/A; Supplier 1 URL: N/A; Supplier 2 Name: Digi-Key; Supplier 2 SN: N/A; Supply 2 URL: N/A; Supplier 3 Name: Thegioiic; Supplier 3 SN: N/A; Supplier 3 URL: N/A; Manufacture  SN: OEM; Value: 53  MOhm, 1/4 W
footprint resistor_0603
pins: 1, 2

## 0006035425
designator R?, comment 480 Ohm, 1/4 W
RES, size 0805, 480 Ohm, 1/4 W; Manufacture  Name: OEM; Rated Power: 1/4 W; Resistance: 480 Ohm; Resistance Tolerant: +/-5%; Size: 0603; Mounting Technology: SMT; Datasheet: N/A; Supplier 1 Name: Mouser; Supplier 1 SN: N/A; Supplier 1 URL: N/A; Supplier 2 Name: Digi-Key; Supplier 2 SN: N/A; Supply 2 URL: N/A; Supplier 3 Name: Thegioiic; Supplier 3 SN: N/A; Supplier 3 URL: N/A; Manufacture  SN: OEM; Value: 480 Ohm, 1/4 W
footprint resistor_0603
pins: 1, 2

## 0006035561
designator ?, comment 55  MOhm, 1/4 W
RES, size 0805, 55  MOhm, 1/4 W; Manufacture  Name: OEM; Rated Power: 1/4 W; Resistance: 55  MOhm; Resistance Tolerant: +/-1%; Size: 0603; Mounting Technology: SMT; Datasheet: N/A; Supplier 1 Name: Mouser; Supplier 1 SN: N/A; Supplier 1 URL: N/A; Supplier 2 Name: Digi-Key; Supplier 2 SN: N/A; Supply 2 URL: N/A; Supplier 3 Name: Thegioiic; Supplier 3 SN: N/A; Supplier 3 URL: N/A; Manufacture  SN: OEM; Value: 55  MOhm, 1/4 W
footprint resistor_0603
pins: 1, 2

## 0006035565
designator R?, comment 55 MOhm, 1/4 W
RES, size 0805, 55 MOhm, 1/4 W; Manufacture  Name: OEM; Rated Power: 1/4 W; Resistance: 55 MOhm; Resistance Tolerant: +/-5%; Size: 0603; Mounting Technology: SMT; Datasheet: N/A; Supplier 1 Name: Mouser; Supplier 1 SN: N/A; Supplier 1 URL: N/A; Supplier 2 Name: Digi-Key; Supplier 2 SN: N/A; Supply 2 URL: N/A; Supplier 3 Name: Thegioiic; Supplier 3 SN: N/A; Supplier 3 URL: N/A; Manufacture  SN: OEM; Value: 55 MOhm, 1/4 W
footprint resistor_0603
pins: 1, 2

## 0006035621
designator R?, comment 5.6 KOhm, 1/4 W
RES, size 0805, 5.6 KOhm, 1/4 W; Manufacture  Name: OEM; Resistance Tolerant: +/-1%; Rated Power: 1/4 W; Resistance: 5.6 KOhm; Size: 0603; Mounting Technology: SMT; Supplier 1 Name: Mouser; Supplier 1 SN: 667-ERJ-UP3F5601V; Supplier 2 Name: Digi-Key; Supplier 2 SN: 10-ERJ-UP3F5601VTR-ND 10-ERJ-UP3F5601VCT-ND 10-ERJ-UP3F5601VDKR-ND; Supplier 1 URL: https://www.mouser.vn/ProductDetail/Panasonic/ERJ-UP3F5601V?qs=sGAEpiMZZMvdGkrng054twq3eZrCFN89ezYxgAsnxBTZYD17cS%252B65A%3D%3D; Supply 2 URL: https://www.digikey.com/en/products/detail/panasonic-electronic-components/ERJ-UP3F5601V/12092890; Supplier 3 Name: Thegioiic; Supplier 3 SN: N/A; Supplier 3 URL: N/A; Datasheet: https://api.pim.na.industrial.panasonic.com/file_stream/main/fileversion/4484; Manufacture  SN: OEM; Value: 5.6 KOhm, 1/4 W
footprint resistor_0603
pins: 1, 2

## 0006035625
designator R?, comment 5.6 KOhm, 1/4 W
RES, size 0805, 5.6 KOhm, 1/4 W; Manufacture  Name: OEM; Rated Power: 1/4 W; Resistance Tolerant: +/-5%; Size: 0603; Mounting Technology: SMT; Datasheet: N/A; Resistance: 5.6 KOhm; Supplier 1 Name: Mouser; Supplier 1 SN: N/A; Supplier 1 URL: N/A; Supplier 2 Name: Digi-Key; Supplier 2 SN: N/A; Supply 2 URL: N/A; Supplier 3 Name: Thegioiic; Supplier 3 SN: N/A; Supplier 3 URL: N/A; Manufacture  SN: OEM; Value: 5.6 KOhm, 1/4 W
footprint resistor_0603
pins: 1, 2

## 0006035765
designator R?, comment 57 MOhm, 1/4 W
RES, size 0805, 57 MOhm, 1/4 W; Manufacture  Name: OEM; Rated Power: 1/4 W; Resistance: 57 MOhm; Resistance Tolerant: +/-5%; Size: 0603; Mounting Technology: SMT; Datasheet: N/A; Supplier 1 Name: Mouser; Supplier 1 SN: N/A; Supplier 1 URL: N/A; Supplier 2 Name: Digi-Key; Supplier 2 SN: N/A; Supply 2 URL: N/A; Supplier 3 Name: Thegioiic; Supplier 3 SN: N/A; Supplier 3 URL: N/A; Manufacture  SN: OEM; Value: 57 MOhm, 1/4 W
footprint resistor_0603
pins: 1, 2

## 0006035835
designator R?, comment 58 KOhm, 1/4 W
RES, size 0805, 58 KOhm, 1/4 W; Manufacture  Name: OEM; Rated Power: 1/4 W; Resistance: 58 KOhm; Resistance Tolerant: +/-5%; Size: 0603; Mounting Technology: SMT; Datasheet: N/A; Supplier 1 Name: Mouser; Supplier 1 SN: N/A; Supplier 1 URL: N/A; Supplier 2 Name: Digi-Key; Supplier 2 SN: N/A; Supply 2 URL: N/A; Supplier 3 Name: Thegioiic; Supplier 3 SN: N/A; Supplier 3 URL: N/A; Manufacture  SN: OEM; Value: 58 KOhm, 1/4 W
footprint resistor_0603
pins: 1, 2

## 0006035901
designator R?, comment 59 Ohm, 1/4 W
RES, size 0805, 59 Ohm, 1/4 W; Manufacture  Name: OEM; Resistance: 59 Ohm; Resistance Tolerant: +/-1%; Rated Power: 1/4 W; Size: 0603; Mounting Technology: SMT; Supplier 1 Name: Mouser; Supplier 1 SN: 71-RCS060359R0FKEA; Supplier 2 Name: Digi-Key; Supplier 2 SN: 541-10480-2-ND 541-10480-1-ND 541-10480-6-ND; Supplier 1 URL: https://www.mouser.vn/ProductDetail/Vishay-Dale/RCS060359R0FKEA?qs=sGAEpiMZZMvdGkrng054txfS%2FhNqc3c5%2Fx%2FP%252BWnZoLzaz8jeQEqAIA%3D%3D; Supply 2 URL: https://www.digikey.com/en/products/detail/vishay-dale/RCS060359R0FKEA/5868349; Supplier 3 Name: Thegioiic; Supplier 3 SN: N/A; Supplier 3 URL: N/A; Datasheet: https://www.vishay.com/docs/20065/rcse3.pdf; Manufacture  SN: OEM; Value: 59 Ohm, 1/4 W
footprint resistor_0603
pins: 1, 2

## 0006035905
designator R?, comment 59 Ohm, 1/4 W
RES, size 0805, 59 Ohm, 1/4 W; Manufacture  Name: OEM; Rated Power: 1/4 W; Resistance: 59 Ohm; Resistance Tolerant: +/-5%; Size: 0603; Mounting Technology: SMT; Datasheet: N/A; Supplier 1 Name: Mouser; Supplier 1 SN: N/A; Supplier 1 URL: N/A; Supplier 2 Name: Digi-Key; Supplier 2 SN: N/A; Supply 2 URL: N/A; Supplier 3 Name: Thegioiic; Supplier 3 SN: N/A; Supplier 3 URL: N/A; Manufacture  SN: OEM; Value: 59 Ohm, 1/4 W
footprint resistor_0603
pins: 1, 2

## 0006036045
designator R?, comment 600 KOhm, 1/4 W
RES, size 0805, 600 KOhm, 1/4 W; Manufacture  Name: OEM; Rated Power: 1/4 W; Resistance Tolerant: +/-5%; Size: 0603; Mounting Technology: SMT; Datasheet: N/A; Resistance: 600 KOhm; Supplier 1 Name: Mouser; Supplier 1 SN: N/A; Supplier 1 URL: N/A; Supplier 2 Name: Digi-Key; Supplier 2 SN: N/A; Supply 2 URL: N/A; Supplier 3 Name: Thegioiic; Supplier 3 SN: N/A; Supplier 3 URL: N/A; Manufacture  SN: OEM; Value: 600 KOhm, 1/4 W
footprint resistor_0603
pins: 1, 2

## 0006036125
designator R?, comment 6.1 KOhm, 1/4 W
RES, size 0805, 6.1 KOhm, 1/4 W; Manufacture  Name: OEM; Rated Power: 1/4 W; Resistance Tolerant: +/-5%; Size: 0603; Mounting Technology: SMT; Datasheet: N/A; Resistance: 6.1 KOhm; Supplier 1 Name: Mouser; Supplier 1 SN: N/A; Supplier 1 URL: N/A; Supplier 2 Name: Digi-Key; Supplier 2 SN: N/A; Supply 2 URL: N/A; Supplier 3 Name: Thegioiic; Supplier 3 SN: N/A; Supplier 3 URL: N/A; Manufacture  SN: OEM; Value: 6.1 KOhm, 1/4 W
footprint resistor_0603
pins: 1, 2

## 0006036261
designator ?, comment 62  MOhm, 1/4 W
RES, size 0805, 62  MOhm, 1/4 W; Manufacture  Name: OEM; Rated Power: 1/4 W; Resistance: 62  MOhm; Resistance Tolerant: +/-1%; Size: 0603; Mounting Technology: SMT; Datasheet: N/A; Supplier 1 Name: Mouser; Supplier 1 SN: N/A; Supplier 1 URL: N/A; Supplier 2 Name: Digi-Key; Supplier 2 SN: N/A; Supply 2 URL: N/A; Supplier 3 Name: Thegioiic; Supplier 3 SN: N/A; Supplier 3 URL: N/A; Manufacture  SN: OEM; Value: 62  MOhm, 1/4 W
footprint resistor_0603
pins: 1, 2

## 0006036265
designator R?, comment 62 MOhm, 1/4 W
RES, size 0805, 62 MOhm, 1/4 W; Manufacture  Name: OEM; Rated Power: 1/4 W; Resistance: 62 MOhm; Resistance Tolerant: +/-5%; Size: 0603; Mounting Technology: SMT; Datasheet: N/A; Supplier 1 Name: Mouser; Supplier 1 SN: N/A; Supplier 1 URL: N/A; Supplier 2 Name: Digi-Key; Supplier 2 SN: N/A; Supply 2 URL: N/A; Supplier 3 Name: Thegioiic; Supplier 3 SN: N/A; Supplier 3 URL: N/A; Manufacture  SN: OEM; Value: 62 MOhm, 1/4 W
footprint resistor_0603
pins: 1, 2

## 0006036345
designator R?, comment 630 KOhm, 1/4 W
RES, size 0805, 630 KOhm, 1/4 W; Manufacture  Name: OEM; Rated Power: 1/4 W; Resistance Tolerant: +/-5%; Size: 0603; Mounting Technology: SMT; Datasheet: N/A; Resistance: 630 KOhm; Supplier 1 Name: Mouser; Supplier 1 SN: N/A; Supplier 1 URL: N/A; Supplier 2 Name: Digi-Key; Supplier 2 SN: N/A; Supply 2 URL: N/A; Supplier 3 Name: Thegioiic; Supplier 3 SN: N/A; Supplier 3 URL: N/A; Manufacture  SN: OEM; Value: 630 KOhm, 1/4 W
footprint resistor_0603
pins: 1, 2

## 0006036425
designator R?, comment 480 Ohm, 1/4 W
RES, size 0805, 480 Ohm, 1/4 W; Manufacture  Name: OEM; Rated Power: 1/4 W; Resistance: 480 Ohm; Resistance Tolerant: +/-5%; Size: 0603; Mounting Technology: SMT; Datasheet: N/A; Supplier 1 Name: Mouser; Supplier 1 SN: N/A; Supplier 1 URL: N/A; Supplier 2 Name: Digi-Key; Supplier 2 SN: N/A; Supply 2 URL: N/A; Supplier 3 Name: Thegioiic; Supplier 3 SN: N/A; Supplier 3 URL: N/A; Manufacture  SN: OEM; Value: 480 Ohm, 1/4 W
footprint resistor_0603
pins: 1, 2

## 0006036655
designator R?, comment 6.6 MOhm, 1/4 W
RES, size 0805, 6.6 MOhm, 1/4 W; Manufacture  Name: OEM; Rated Power: 1/4 W; Resistance Tolerant: +/-5%; Size: 0603; Mounting Technology: SMT; Datasheet: N/A; Resistance: 6.6 MOhm; Supplier 1 Name: Mouser; Supplier 1 SN: N/A; Supplier 1 URL: N/A; Supplier 2 Name: Digi-Key; Supplier 2 SN: N/A; Supply 2 URL: N/A; Supplier 3 Name: Thegioiic; Supplier 3 SN: N/A; Supplier 3 URL: N/A; Manufacture  SN: OEM; Value: 6.6 MOhm, 1/4 W
footprint resistor_0603
pins: 1, 2

## 0006036735
designator R?, comment 67 KOhm, 1/4 W
RES, size 0805, 67 KOhm, 1/4 W; Manufacture  Name: OEM; Rated Power: 1/4 W; Resistance: 67 KOhm; Resistance Tolerant: +/-5%; Size: 0603; Mounting Technology: SMT; Datasheet: N/A; Supplier 1 Name: Mouser; Supplier 1 SN: N/A; Supplier 1 URL: N/A; Supplier 2 Name: Digi-Key; Supplier 2 SN: N/A; Supply 2 URL: N/A; Supplier 3 Name: Thegioiic; Supplier 3 SN: N/A; Supplier 3 URL: N/A; Manufacture  SN: OEM; Value: 67 KOhm, 1/4 W
footprint resistor_0603
pins: 1, 2

## 0006036811
designator R?, comment 680 Ohm, 1/4 W
RES, size 0805, 680 Ohm, 1/4 W; Manufacture  Name: OEM; Resistance: 680 Ohm; Resistance Tolerant: +/-1%; Rated Power: 1/4 W; Size: 0603; Mounting Technology: SMT; Supplier 1 Name: Mouser; Supplier 1 SN: 755-ESR03EZPF6800; Supplier 2 Name: Digi-Key; Supplier 2 SN: 511-ESR03EZPF6800TR-ND 511-ESR03EZPF6800CT-ND 511-ESR03EZPF6800DKR-ND; Supplier 1 URL: https://www.mouser.vn/ProductDetail/ROHM-Semiconductor/ESR03EZPF6800?qs=sGAEpiMZZMvdGkrng054tywGjayRHxH2%252BpGMJaiHRuJd8MneXKUC7g%3D%3D; Supply 2 URL: https://www.digikey.com/en/products/detail/rohm-semiconductor/ESR03EZPF6800/4007267; Supplier 3 Name: Thegioiic; Supplier 3 SN: N/A; Supplier 3 URL: N/A; Datasheet: https://fscdn.rohm.com/en/products/databook/datasheet/passive/resistor/chip_resistor/esr-e.pdf; Manufacture  SN: OEM; Value: 680 Ohm, 1/4 W
footprint resistor_0603
pins: 1, 2

## 0006036815
designator R?, comment 680 Ohm, 1/4 W
RES, size 0805, 680 Ohm, 1/4 W; Manufacture  Name: Panasonic; Manufacture  SN: ERJ-UP3J681V; Rated Power: 1/4 W; Resistance: 680 Ohm; Resistance Tolerant: +/-5%; Size: 0603; Mounting Technology: SMT; Datasheet: https://www.mouser.vn/datasheet/2/315/Panasonic_Resistors_Thick_Film_Anti_Sulf_Anti_Surg-1825099.pdf; Supplier 1 Name: Mouser; Supplier 1 SN: 667-ERJ-UP3J681V; Supplier 1 URL: https://www.mouser.vn/ProductDetail/Panasonic/ERJ-UP3J681V?qs=GedFDFLaBXHxYQ2at90EWA%3D%3D; Supplier 2 Name: Digi-Key; Supplier 2 SN: 10-ERJ-UP3J681VTR-ND - Tape & Reel (TR); Supply 2 URL: https://www.digikey.com/en/products/detail/panasonic-electronic-components/ERJ-UP3J681V/12092398?s=N4IgTCBcDaIGxwOwFoCiAlAUsgqgBQGZM4AOARgDUQBdAXyA; Supplier 3 Name: Thegioiic; Supplier 3 SN: N/A; Supplier 3 URL: https://www.thegioiic.com/dien-tro-680-ohm-0603-5; Value: 680 Ohm, 1/4 W
footprint resistor_0603
pins: 1, 2

## 0006036905
designator R?, comment 69 Ohm, 1/4 W
RES, size 0805, 69 Ohm, 1/4 W; Manufacture  Name: OEM; Rated Power: 1/4 W; Resistance: 69 Ohm; Resistance Tolerant: +/-5%; Size: 0603; Mounting Technology: SMT; Datasheet: N/A; Supplier 1 Name: Mouser; Supplier 1 SN: N/A; Supplier 1 URL: N/A; Supplier 2 Name: Digi-Key; Supplier 2 SN: N/A; Supply 2 URL: N/A; Supplier 3 Name: Thegioiic; Supplier 3 SN: N/A; Supplier 3 URL: N/A; Manufacture  SN: OEM; Value: 69 Ohm, 1/4 W
footprint resistor_0603
pins: 1, 2

## 0006037065
designator R?, comment 70 MOhm, 1/4 W
RES, size 0805, 70 MOhm, 1/4 W; Manufacture  Name: OEM; Rated Power: 1/4 W; Resistance: 70 MOhm; Resistance Tolerant: +/-5%; Size: 0603; Mounting Technology: SMT; Datasheet: N/A; Supplier 1 Name: Mouser; Supplier 1 SN: N/A; Supplier 1 URL: N/A; Supplier 2 Name: Digi-Key; Supplier 2 SN: N/A; Supply 2 URL: N/A; Supplier 3 Name: Thegioiic; Supplier 3 SN: N/A; Supplier 3 URL: N/A; Manufacture  SN: OEM; Value: 70 MOhm, 1/4 W
footprint resistor_0603
pins: 1, 2

## 0006037155
designator R?, comment 7.1 MOhm, 1/4 W
RES, size 0805, 7.1 MOhm, 1/4 W; Manufacture  Name: OEM; Rated Power: 1/4 W; Resistance Tolerant: +/-5%; Size: 0603; Mounting Technology: SMT; Datasheet: N/A; Resistance: 7.1 MOhm; Supplier 1 Name: Mouser; Supplier 1 SN: N/A; Supplier 1 URL: N/A; Supplier 2 Name: Digi-Key; Supplier 2 SN: N/A; Supply 2 URL: N/A; Supplier 3 Name: Thegioiic; Supplier 3 SN: N/A; Supplier 3 URL: N/A; Manufacture  SN: OEM; Value: 7.1 MOhm, 1/4 W
footprint resistor_0603
pins: 1, 2

## 0006037235
designator R?, comment 72 KOhm, 1/4 W
RES, size 0805, 72 KOhm, 1/4 W; Manufacture  Name: OEM; Rated Power: 1/4 W; Resistance: 72 KOhm; Resistance Tolerant: +/-5%; Size: 0603; Mounting Technology: SMT; Datasheet: N/A; Supplier 1 Name: Mouser; Supplier 1 SN: N/A; Supplier 1 URL: N/A; Supplier 2 Name: Digi-Key; Supplier 2 SN: N/A; Supply 2 URL: N/A; Supplier 3 Name: Thegioiic; Supplier 3 SN: N/A; Supplier 3 URL: N/A; Manufacture  SN: OEM; Value: 72 KOhm, 1/4 W
footprint resistor_0603
pins: 1, 2

## 0006037321
designator R?, comment 7.3  KOhm, 1/4 W
RES, size 0805, 7.3  KOhm, 1/4 W; Manufacture  Name: OEM; Rated Power: 1/4 W; Resistance Tolerant: +/-1%; Size: 0603; Mounting Technology: SMT; Datasheet: N/A; Resistance: 7.3  KOhm; Supplier 1 Name: Mouser; Supplier 1 SN: N/A; Supplier 1 URL: N/A; Supplier 2 Name: Digi-Key; Supplier 2 SN: N/A; Supply 2 URL: N/A; Supplier 3 Name: Thegioiic; Supplier 3 SN: N/A; Supplier 3 URL: N/A; Manufacture  SN: OEM; Value: 7.3  KOhm, 1/4 W
footprint resistor_0603
pins: 1, 2

## 0006037325
designator R?, comment 7.3 KOhm, 1/4 W
RES, size 0805, 7.3 KOhm, 1/4 W; Manufacture  Name: OEM; Rated Power: 1/4 W; Resistance Tolerant: +/-5%; Size: 0603; Mounting Technology: SMT; Datasheet: N/A; Resistance: 7.3 KOhm; Supplier 1 Name: Mouser; Supplier 1 SN: N/A; Supplier 1 URL: N/A; Supplier 2 Name: Digi-Key; Supplier 2 SN: N/A; Supply 2 URL: N/A; Supplier 3 Name: Thegioiic; Supplier 3 SN: N/A; Supplier 3 URL: N/A; Manufacture  SN: OEM; Value: 7.3 KOhm, 1/4 W
footprint resistor_0603
pins: 1, 2

## 0006037411
designator R?, comment 740 Ohm, 1/4 W
RES, size 0805, 740 Ohm, 1/4 W; Manufacture  Name: OEM; Rated Power: 1/4 W; Resistance: 740 Ohm; Resistance Tolerant: +/-1%; Size: 0603; Mounting Technology: SMT; Datasheet: N/A; Supplier 1 Name: Mouser; Supplier 1 SN: N/A; Supplier 1 URL: N/A; Supplier 2 Name: Digi-Key; Supplier 2 SN: N/A; Supply 2 URL: N/A; Supplier 3 Name: Thegioiic; Supplier 3 SN: N/A; Supplier 3 URL: N/A; Manufacture  SN: OEM; Value: 740 Ohm, 1/4 W
footprint resistor_0603
pins: 1, 2

## 0006037415
designator R?, comment 740 Ohm, 1/4 W
RES, size 0805, 740 Ohm, 1/4 W; Manufacture  Name: OEM; Rated Power: 1/4 W; Resistance: 740 Ohm; Resistance Tolerant: +/-5%; Size: 0603; Mounting Technology: SMT; Datasheet: N/A; Supplier 1 Name: Mouser; Supplier 1 SN: N/A; Supplier 1 URL: N/A; Supplier 2 Name: Digi-Key; Supplier 2 SN: N/A; Supply 2 URL: N/A; Supplier 3 Name: Thegioiic; Supplier 3 SN: N/A; Supplier 3 URL: N/A; Manufacture  SN: OEM; Value: 740 Ohm, 1/4 W
footprint resistor_0603
pins: 1, 2

## 0006037501
designator R?, comment 75 Ohm, 1/4 W
RES, size 0805, 75 Ohm, 1/4 W; Manufacture  Name: OEM; Resistance: 75 Ohm; Resistance Tolerant: +/-1%; Rated Power: 1/4 W; Size: 0603; Mounting Technology: SMT; Supplier 1 Name: Mouser; Supplier 1 SN: 667-ERJ-UP3F75R0V; Supplier 2 Name: Digi-Key; Supplier 2 SN: 10-ERJ-UP3F75R0VTR-ND 10-ERJ-UP3F75R0VCT-ND 10-ERJ-UP3F75R0VDKR-ND; Supplier 1 URL: https://www.mouser.vn/ProductDetail/Panasonic/ERJ-UP3F75R0V?qs=sGAEpiMZZMvdGkrng054twq3eZrCFN894zorssYShYfIc9exXDJJDg%3D%3D; Supply 2 URL: https://www.digikey.com/en/products/detail/panasonic-electronic-components/ERJ-UP3F75R0V/12092840; Supplier 3 Name: Thegioiic; Supplier 3 SN: N/A; Supplier 3 URL: N/A; Datasheet: https://api.pim.na.industrial.panasonic.com/file_stream/main/fileversion/4484; Manufacture  SN: OEM; Value: 75 Ohm, 1/4 W
footprint resistor_0603
pins: 1, 2

## 0006037505
designator R?, comment 75 Ohm, 1/4 W
RES, size 0805, 75 Ohm, 1/4 W; Manufacture  Name: Panasonic; Manufacture  SN: ERJ-UP3J750V; Rated Power: 1/4 W; Resistance: 75 Ohm; Resistance Tolerant: +/-5%; Size: 0603; Mounting Technology: SMT; Datasheet: https://www.mouser.vn/datasheet/2/315/Panasonic_Resistors_Thick_Film_Anti_Sulf_Anti_Surg-1825099.pdf; Supplier 1 Name: Mouser; Supplier 1 SN: 667-ERJ-UP3J750V; Supplier 1 URL: https://www.mouser.vn/ProductDetail/Panasonic/ERJ-UP3J750V?qs=GedFDFLaBXEUNC90rvoH6Q%3D%3D; Supplier 2 Name: Digi-Key; Supplier 2 SN: 10-ERJ-UP3J750VTR-ND - Tape & Reel (TR); Supply 2 URL: https://www.digikey.com/en/products/detail/panasonic-electronic-components/ERJ-UP3J750V/12093112?s=N4IgTCBcDaIGxwOwFoCiAlAUsgqgBQGZNEBWABgDUQBdAXyA; Supplier 3 Name: Thegioiic; Supplier 3 SN: N/A; Supplier 3 URL: https://www.thegioiic.com/dien-tro-75-ohm-0603-5-; Value: 75 Ohm, 1/4 W
footprint resistor_0603
pins: 1, 2

## 0006037965
designator R?, comment 79 MOhm, 1/4 W
RES, size 0805, 79 MOhm, 1/4 W; Manufacture  Name: OEM; Rated Power: 1/4 W; Resistance: 79 MOhm; Resistance Tolerant: +/-5%; Size: 0603; Mounting Technology: SMT; Datasheet: N/A; Supplier 1 Name: Mouser; Supplier 1 SN: N/A; Supplier 1 URL: N/A; Supplier 2 Name: Digi-Key; Supplier 2 SN: N/A; Supply 2 URL: N/A; Supplier 3 Name: Thegioiic; Supplier 3 SN: N/A; Supplier 3 URL: N/A; Manufacture  SN: OEM; Value: 79 MOhm, 1/4 W
footprint resistor_0603
pins: 1, 2

## 0006038065
designator R?, comment 80 MOhm, 1/4 W
RES, size 0805, 80 MOhm, 1/4 W; Manufacture  Name: OEM; Rated Power: 1/4 W; Resistance: 80 MOhm; Resistance Tolerant: +/-5%; Size: 0603; Mounting Technology: SMT; Datasheet: N/A; Supplier 1 Name: Mouser; Supplier 1 SN: N/A; Supplier 1 URL: N/A; Supplier 2 Name: Digi-Key; Supplier 2 SN: N/A; Supply 2 URL: N/A; Supplier 3 Name: Thegioiic; Supplier 3 SN: N/A; Supplier 3 URL: N/A; Manufacture  SN: OEM; Value: 80 MOhm, 1/4 W
footprint resistor_0603
pins: 1, 2

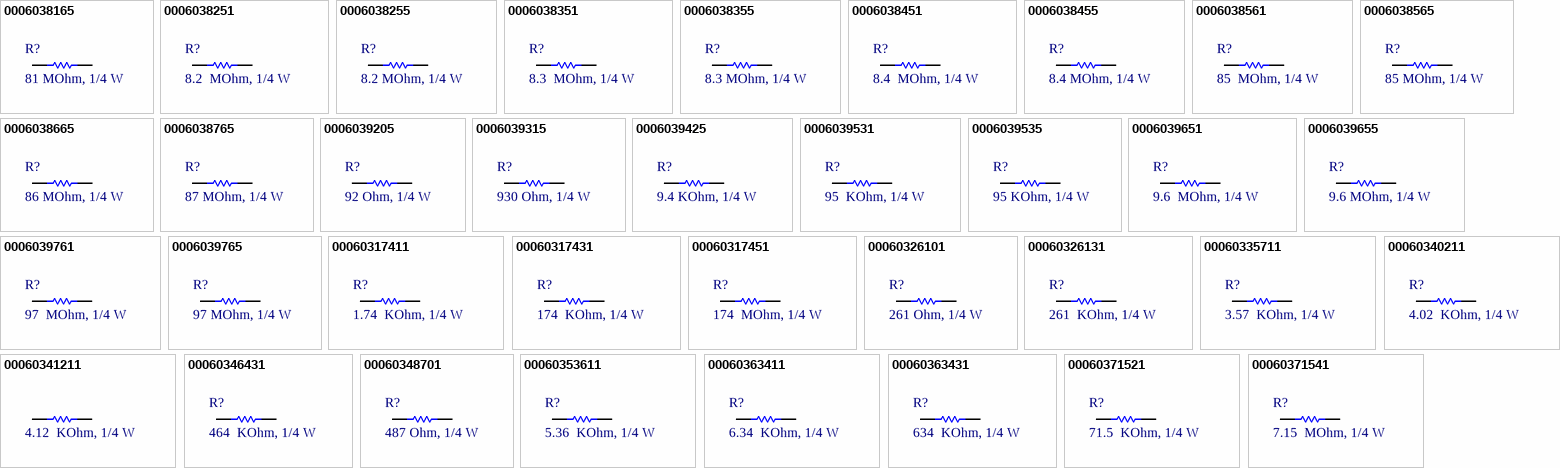
[diagram p5: symbols 0006038165 to 00060371541]

## 0006038165
designator R?, comment 81 MOhm, 1/4 W
RES, size 0805, 81 MOhm, 1/4 W; Manufacture  Name: OEM; Rated Power: 1/4 W; Resistance: 81 MOhm; Resistance Tolerant: +/-5%; Size: 0603; Mounting Technology: SMT; Datasheet: N/A; Supplier 1 Name: Mouser; Supplier 1 SN: N/A; Supplier 1 URL: N/A; Supplier 2 Name: Digi-Key; Supplier 2 SN: N/A; Supply 2 URL: N/A; Supplier 3 Name: Thegioiic; Supplier 3 SN: N/A; Supplier 3 URL: N/A; Manufacture  SN: OEM; Value: 81 MOhm, 1/4 W
footprint resistor_0603
pins: 1, 2

## 0006038251
designator R?, comment 8.2  MOhm, 1/4 W
RES, size 0805, 8.2  MOhm, 1/4 W; Manufacture  Name: OEM; Rated Power: 1/4 W; Resistance Tolerant: +/-1%; Size: 0603; Mounting Technology: SMT; Datasheet: N/A; Resistance: 8.2  MOhm; Supplier 1 Name: Mouser; Supplier 1 SN: 660-HV731JTTD8204F; Supplier 1 URL: https://www.mouser.vn/ProductDetail/KOA-Speer/HV731JTTD8204F?qs=ZqVPfSd1khqN0teaqWW7DA%3D%3D; Supplier 2 Name: Digi-Key; Supplier 2 SN: 13-RC0603FR-078M2LTR-ND; Supply 2 URL: https://www.digikey.com/en/products/detail/yageo/RC0603FR-078M2L/5918418; Supplier 3 Name: Thegioiic; Supplier 3 SN: N/A; Supplier 3 URL: N/A; Manufacture  SN: OEM; Value: 8.2  MOhm, 1/4 W
footprint resistor_0603
pins: 1, 2

## 0006038255
designator R?, comment 8.2 MOhm, 1/4 W
RES, size 0805, 8.2 MOhm, 1/4 W; Manufacture  Name: ROHM Semiconductor; Manufacture  SN: ESR03EZPJ825; Rated Power: 1/4 W; Resistance Tolerant: +/-5%; Size: 0603; Mounting Technology: SMT; Datasheet: https://www.mouser.vn/datasheet/2/348/ROHM_S_A0011075102_1-2563252.pdf; Resistance: 8.2 MOhm; Supplier 1 Name: Mouser; Supplier 1 SN: 755-ESR03EZPJ825; Supplier 1 URL: https://www.mouser.vn/ProductDetail/ROHM-Semiconductor/ESR03EZPJ825?qs=493kPxzlxfIkNxBzvs2Ymg%3D%3D; Supplier 2 Name: Digi-Key; Supplier 2 SN: RHM8.2MDTR-ND - Tape & Reel (TR); Supply 2 URL: https://www.digikey.com/en/products/detail/rohm-semiconductor/ESR03EZPJ825/4051298?s=N4IgTCBcDaIOwFYEFoCiBlASgBgMyoC0AFAKQA4wEQBdAXyA; Supplier 3 Name: Thegioiic; Supplier 3 SN: N/A; Supplier 3 URL: N/A; Value: 8.2 MOhm, 1/4 W
footprint resistor_0603
pins: 1, 2

## 0006038351
designator R?, comment 8.3  MOhm, 1/4 W
RES, size 0805, 8.3  MOhm, 1/4 W; Manufacture  Name: OEM; Rated Power: 1/4 W; Resistance Tolerant: +/-1%; Size: 0603; Mounting Technology: SMT; Datasheet: N/A; Resistance: 8.3  MOhm; Supplier 1 Name: Mouser; Supplier 1 SN: N/A; Supplier 1 URL: N/A; Supplier 2 Name: Digi-Key; Supplier 2 SN: N/A; Supply 2 URL: N/A; Supplier 3 Name: Thegioiic; Supplier 3 SN: N/A; Supplier 3 URL: N/A; Manufacture  SN: OEM; Value: 8.3  MOhm, 1/4 W
footprint resistor_0603
pins: 1, 2

## 0006038355
designator R?, comment 8.3 MOhm, 1/4 W
RES, size 0805, 8.3 MOhm, 1/4 W; Manufacture  Name: OEM; Rated Power: 1/4 W; Resistance Tolerant: +/-5%; Size: 0603; Mounting Technology: SMT; Datasheet: N/A; Resistance: 8.3 MOhm; Supplier 1 Name: Mouser; Supplier 1 SN: N/A; Supplier 1 URL: N/A; Supplier 2 Name: Digi-Key; Supplier 2 SN: N/A; Supply 2 URL: N/A; Supplier 3 Name: Thegioiic; Supplier 3 SN: N/A; Supplier 3 URL: N/A; Manufacture  SN: OEM; Value: 8.3 MOhm, 1/4 W
footprint resistor_0603
pins: 1, 2

## 0006038451
designator R?, comment 8.4  MOhm, 1/4 W
RES, size 0805, 8.4  MOhm, 1/4 W; Manufacture  Name: OEM; Rated Power: 1/4 W; Resistance Tolerant: +/-1%; Size: 0603; Mounting Technology: SMT; Datasheet: N/A; Resistance: 8.4  MOhm; Supplier 1 Name: Mouser; Supplier 1 SN: N/A; Supplier 1 URL: N/A; Supplier 2 Name: Digi-Key; Supplier 2 SN: N/A; Supply 2 URL: N/A; Supplier 3 Name: Thegioiic; Supplier 3 SN: N/A; Supplier 3 URL: N/A; Manufacture  SN: OEM; Value: 8.4  MOhm, 1/4 W
footprint resistor_0603
pins: 1, 2